# Altium footprint library Diodes.PcbLib: 5 footprints
Each footprint in its own frame and in the unit in brackets; x right, y up, seen from the top. Pads: shape width x height; smd on the part's side, far side on the other; paste and mask are expansions set on the pad; w line width, h text height; cw(c..) or ccw(c..) is an arc to the next point about the centre after c.
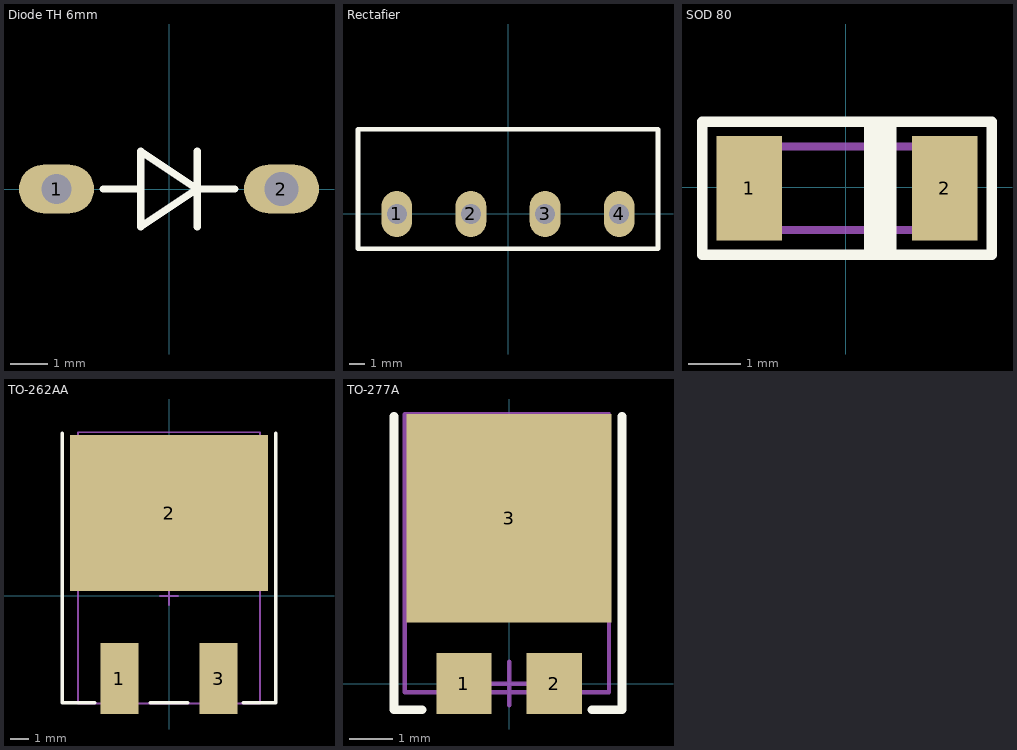
[diagram p0: the footprints below, top view; thin cyan lines are the x and y axes]

## Diode TH 6mm [mm]
pads (2):
  oval 2x1.3 hole 0.8: 1(-3,0)
  oval 2x1.3 hole 0.9: 2(3,0)
Top Overlay:
  lines w0.2: -1.75,0 -0.75,0 ; 0.75,-1 0.75,1 ; 1.75,0 0.75,0 ; 0.75,0 -0.75,1 -0.75,-1 0.75,0
3D body "Diode.stp": height 2.2, standoff -4.6, extent -3.347,-0.992 3.347,1

## Rectafier [mm]
pads (4):
  oval 2x3 hole 1.3: 1(-7.23,0) 2(-2.41,0) 3(2.41,0) 4(7.23,0)
Top Overlay:
  lines w0.3: -9.75,-2.25 -9.75,5.5 9.75,5.5 9.75,-2.25 -9.75,-2.25
3D body "Rectafier.stp": height 15.36, standoff -8.5, extent -9.295,-1.73 9.295,5

## SOD 80 [mm] "SOD, 2 Leads; Body 3.7 x 1.6 mm, (LxW)"
height 1.6
pads (2):
  rect 1.25x2 smd: 1(-1.85,-0.025) 2(1.9,-0.025)
Top Overlay:
  rectangle: 0.25,-1.325 0.875,-1.325
  rectangle: 0.35,-1.3 0.975,1.25
  lines w0.2: -2.75,-1.3 -2.75,1.25 2.8,1.25 2.8,-1.3 -2.75,-1.3
Mechanical 1:
  lines w0.15: -1.85,-0.825 -1.85,0.775 1.85,0.775 1.85,-0.825 -1.85,-0.825
3D body "MiniMelfDiode.stp": height 1.63, standoff 0.04, extent -1.825,-0.847 1.875,0.747

## TO-262AA [mm] "Surface moun; Pitch 2.28 mm"
height 2
pads (3):
  rect 2.032x3.81 smd: 1(-2.67,-4.452) 3(2.67,-4.452)
  rect 10.66x8.38 smd: 2(0,4.453)
Top Overlay:
  lines w0.2: -5.75,8.75 -5.75,-5.75 -4,-5.75 ; -1,-5.75 1,-5.75 ; 4,-5.75 5.75,-5.75 5.75,8.75
Mechanical 13:
  circle w0.1: c-3.75,7.25 r0.5
  lines w0.1: -4.9,-5.8 -4.9,8.8 4.9,8.8 4.9,-5.8 -4.9,-5.8
Mechanical 15:
  lines w0.1: -0.5,0 0.5,0 ; 0,-0.5 0,0.5
3D body "TO263-3-2.stp": height 4.22, standoff 0, extent -4.911,-5.811 4.911,8.791

## TO-277A [mm]
height 1.2
pads (3):
  rect 1.27x1.4 smd: 1(-1.04,0) 2(1.04,0)
  rect 4.72x4.8 smd: 3(0,3.805)
Top Overlay:
  lines w0.2: -2.65,6.15 -2.65,-0.6 -2,-0.6 ; 1.9,-0.6 2.6,-0.6 2.6,6.15
Mechanical 13:
  circle w0.1: c-1.5,5.2 r0.5
  lines w0.1: -2.4,-0.2 2.3,-0.2 2.3,6.2 -2.4,6.2 -2.4,-0.2
Mechanical 15:
  lines w0.1: -0.5,0 0.5,0 ; 0,-0.5 0,0.5
3D body "TO-277A.stp": height 1.2, standoff 0, extent -2.325,-0.6 2.325,6.05